# Altium footprint library composants actifs.pcblib: 55 footprints (part 4 of 4)
Each footprint in its own frame and in the unit in brackets; x right, y up, seen from the top. Pads: shape width x height; smd on the part's side, far side on the other; paste and mask are expansions set on the pad; w line width, h text height; cw(c..) or ccw(c..) is an arc to the next point about the centre after c.
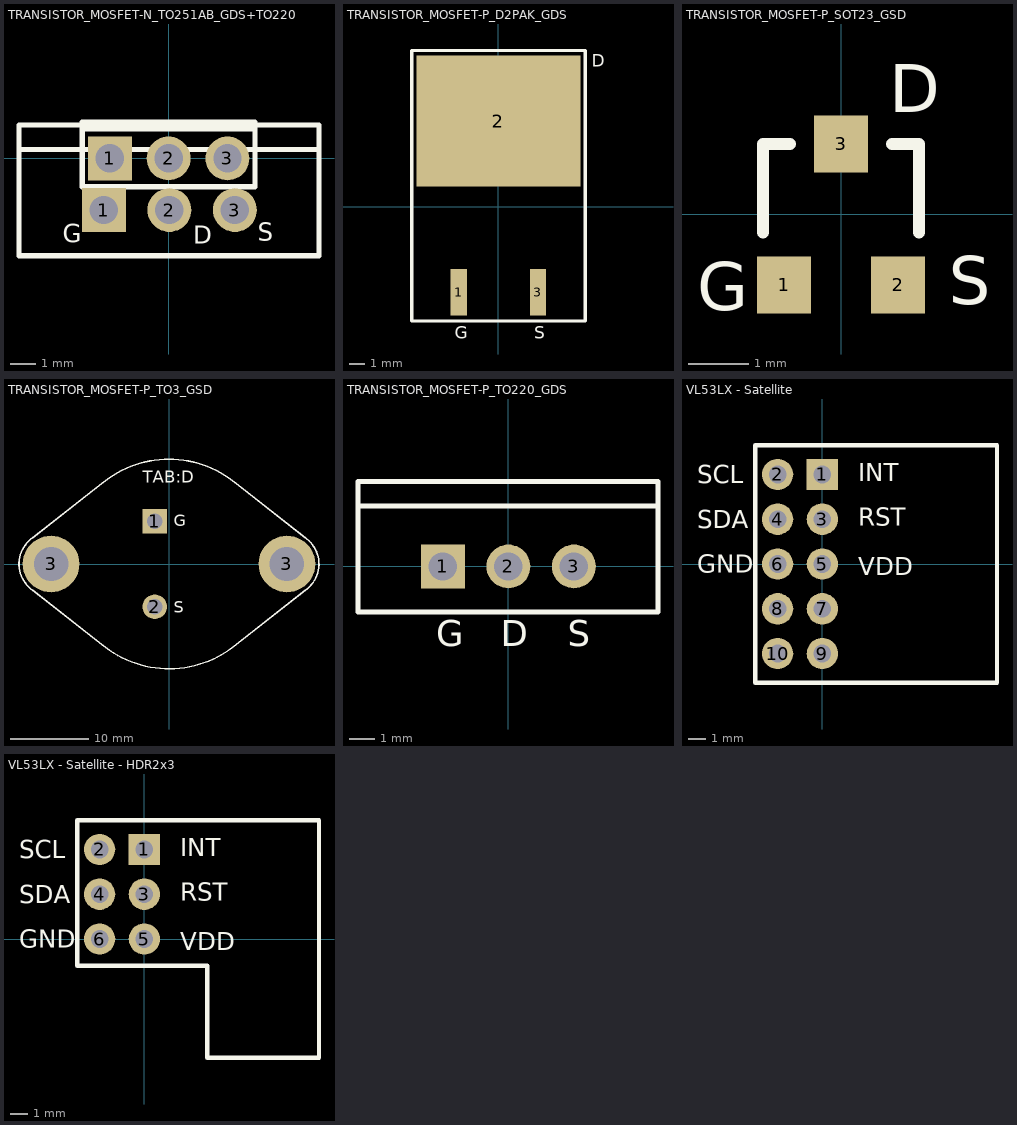
[diagram p3: the footprints below, top view; thin cyan lines are the x and y axes]

## TRANSISTOR_MOSFET-N_TO251AB_GDS+TO220 [mm] "BOITIER TO251AB ; DIMENSIONS : 11.2mm x 4.7mm ; ESPACEMENT BROCHES : 2.28 mm"
height 8
pads (6):
  rect 1.7x1.7 hole 1.1: 1(-2.511,-2.001) 1(-2.28,0)
  round 1.7 hole 1.1: 2(0,0) 2(0.029,-2.001) 3(2.28,0) 3(2.569,-2.001)
Top Overlay:
  lines w0.2: -5.801,0.349 5.829,0.349 ; -3.35,1.15 3.35,1.15 ; -5.801,-3.771 5.829,-3.771 5.829,1.289 -5.801,1.289 -5.801,-3.771 ; -3.35,-1.1 3.35,-1.1 3.35,1.4 -3.35,1.4 -3.35,-1.1
  text "G" at -4.1,-3.25 h0.7
  text "D" at 0.95,-3.3 h0.7
  text "S" at 3.45,-3.2 h0.7
3D body "JEDEC_TO-251AB_IPAK-V.STEP": height 10.71, standoff -12.15, extent -3.199,-0.988 3.299,1.4
3D body "boiter TO220.STEP": height 19.33, standoff -10, extent -5.578,-3.591 5.636,1.099

## TRANSISTOR_MOSFET-P_D2PAK_GDS [mm] "TRANSISTOR MOSFET CANAL P BOITIER D2PAK ; DIMENSIONS : 15.5mm x 10.5 mm"
height 4.69
pads (3):
  rect 1.05x3 smd: 1(-2.54,-5.5) 3(2.54,-5.5)
  rect 10.55x8.4 smd: 2(0,5.5)
Top Overlay:
  lines w0.2: -5.57,-7.35 5.575,-7.35 5.575,10.04 -5.57,10.04 -5.57,-7.35
  text "D" at 6,9 h0.8
  text "S" at 2.3,-8.5 h0.8
  text "G" at -2.8,-8.5 h0.8
3D body "boitier D2PAK.STEP": height 4.98, standoff -0.03, extent -5.12,-6.162 5.04,9.102

## TRANSISTOR_MOSFET-P_SOT23_GSD [mm] "SOT23 ; DIMENSIONS : 3.0mm x 2.5 mm"
height 1.2
pads (3):
  rect 0.9x0.95 smd: 1(-0.95,-1.175) 2(0.95,-1.175) 3(0,1.175)
Top Overlay:
  lines w0.2: -1.3,-0.3 -1.3,1.175 -0.85,1.175 ; 0.85,1.175 1.3,1.175 1.3,-0.3
  text "G" at -2.4,-1.6 h0.8
  text "S" at 1.8,-1.5 h0.8
  text "D" at 0.8,1.7 h0.8
3D body "boitier SOT23.STEP": height 1.1, standoff 0, extent -1.5,-1.569 1.5,1.569

## TRANSISTOR_MOSFET-P_TO3_GSD [mm] "TRANSISTOR TO3 ; DIMENSIONS : 26.7mm x 38.3mm ; ESPACEMENT BROCHES : 10.92mm"
height 7.87
pads (4):
  rect 3.15x3.15 hole 2: 1(-1.815,5.46)
  round 3.15 hole 2: 2(-1.815,-5.46)
  round 7.25 hole 4.4: 3(-15.075,0) 3(15.075,0)
Top Overlay:
  lines w0.2: -17.427,-3.359 -8.299,-10.521 ; -17.427,-3.358 cw(c-15.075,0) -17.427,3.359 -8.299,10.521 ; -8.613,-10.265 ccw(c0,0) 8.298,-10.521 17.427,-3.359 ; -8.613,10.265 cw(c0,0) 8.613,10.265 ; 8.299,10.521 17.427,3.359 ; 17.308,3.439 cw(c15.075,0) 17.427,-3.358
  text "TAB:D" at -3.33,10.37 h1.52
  text "S" at 0.61,-6.23 h1.5
  text "G" at 0.63,4.83 h1.5
3D body "boitier TO3.STEP": height 6.39, standoff -2.47, extent -19.7,-13.2 19.822,13.013

## TRANSISTOR_MOSFET-P_TO220_GDS [mm] "BOITIER TO220 ; DIMENSIONS : 11.2mm x 4.7mm ; ESPACEMENT BROCHES : 2.54 mm"
height 22.9
pads (3):
  rect 1.7x1.7 hole 1.1: 1(-2.54,0)
  round 1.7 hole 1.1: 2(0,0) 3(2.54,0)
Top Overlay:
  lines w0.2: -5.83,2.35 5.8,2.35 ; -5.83,-1.77 5.8,-1.77 5.8,3.29 -5.83,3.29 -5.83,-1.77
  text "G" at -2.8,-3.1 h1
  text "D" at -0.3,-3.1 h1
  text "S" at 2.3,-3.1 h1
3D body "boiter TO220.STEP": height 19.33, standoff -10, extent -5.607,-1.59 5.607,3.1

## VL53LX - Satellite [mil]
pads (10):
  rect 70x70 hole 39.37: 1(0,200)
  round 70 hole 39.37: 2(-100,200) 3(0,100) 4(-100,100) 5(0,0) 6(-100,0) 7(0,-100) 8(-100,-100) 9(0,-200) 10(-100,-200)
Top Overlay:
  lines w10: -150,-265 390,-265 390,265 -150,265 -150,-265
  text "INT" at 80,185 h40
  text "RST" at 80,85 h40
  text "SDA" at -280,80 h40
  text "SCL" at -280,180 h40
  text "VDD" at 80,-25 h40
  text "GND" at -280,-20 h40
3D body "ST_VL53L0A1_Satellite.STEP": height 1035.43, standoff -7.87, extent 158.78,-275.59 613.11,275.59
3D body "WURTH_Socket_Female_2x5_613010243121 (rev1).stp": height 198.43, standoff -128.35, extent -108.74,-259.84 387.32,259.85

## VL53LX - Satellite - HDR2x3 [mil]
pads (6):
  rect 70x70 hole 39.37: 1(0,200)
  round 70 hole 39.37: 2(-100,200) 3(0,100) 4(-100,100) 5(0,0) 6(-100,0)
Top Overlay:
  lines w10: -150,-60 -150,265 390,265 390,-265 310,-265 140,-265 140,-60 -150,-60
  text "INT" at 80,185 h40
  text "RST" at 80,85 h40
  text "SDA" at -280,80 h40
  text "SCL" at -280,180 h40
  text "VDD" at 80,-25 h40
  text "GND" at -280,-20 h40
3D body "ST_VL53L0A1_Satellite.STEP": height 1035.43, standoff -7.87, extent 158.78,-275.59 613.11,275.59
3D body "WURTH_Socket_Female_2x3_613006243121 (rev1).stp": height 198.43, standoff -128.35, extent -108.74,-59.84 387.32,259.85